# Altium footprint library PCB_Lib.PcbLib: 296 footprints (part 15 of 19)
Each footprint in its own frame and in the unit in brackets; x right, y up, seen from the top. Pads: shape width x height; smd on the part's side, far side on the other; paste and mask are expansions set on the pad; w line width, h text height; cw(c..) or ccw(c..) is an arc to the next point about the centre after c.
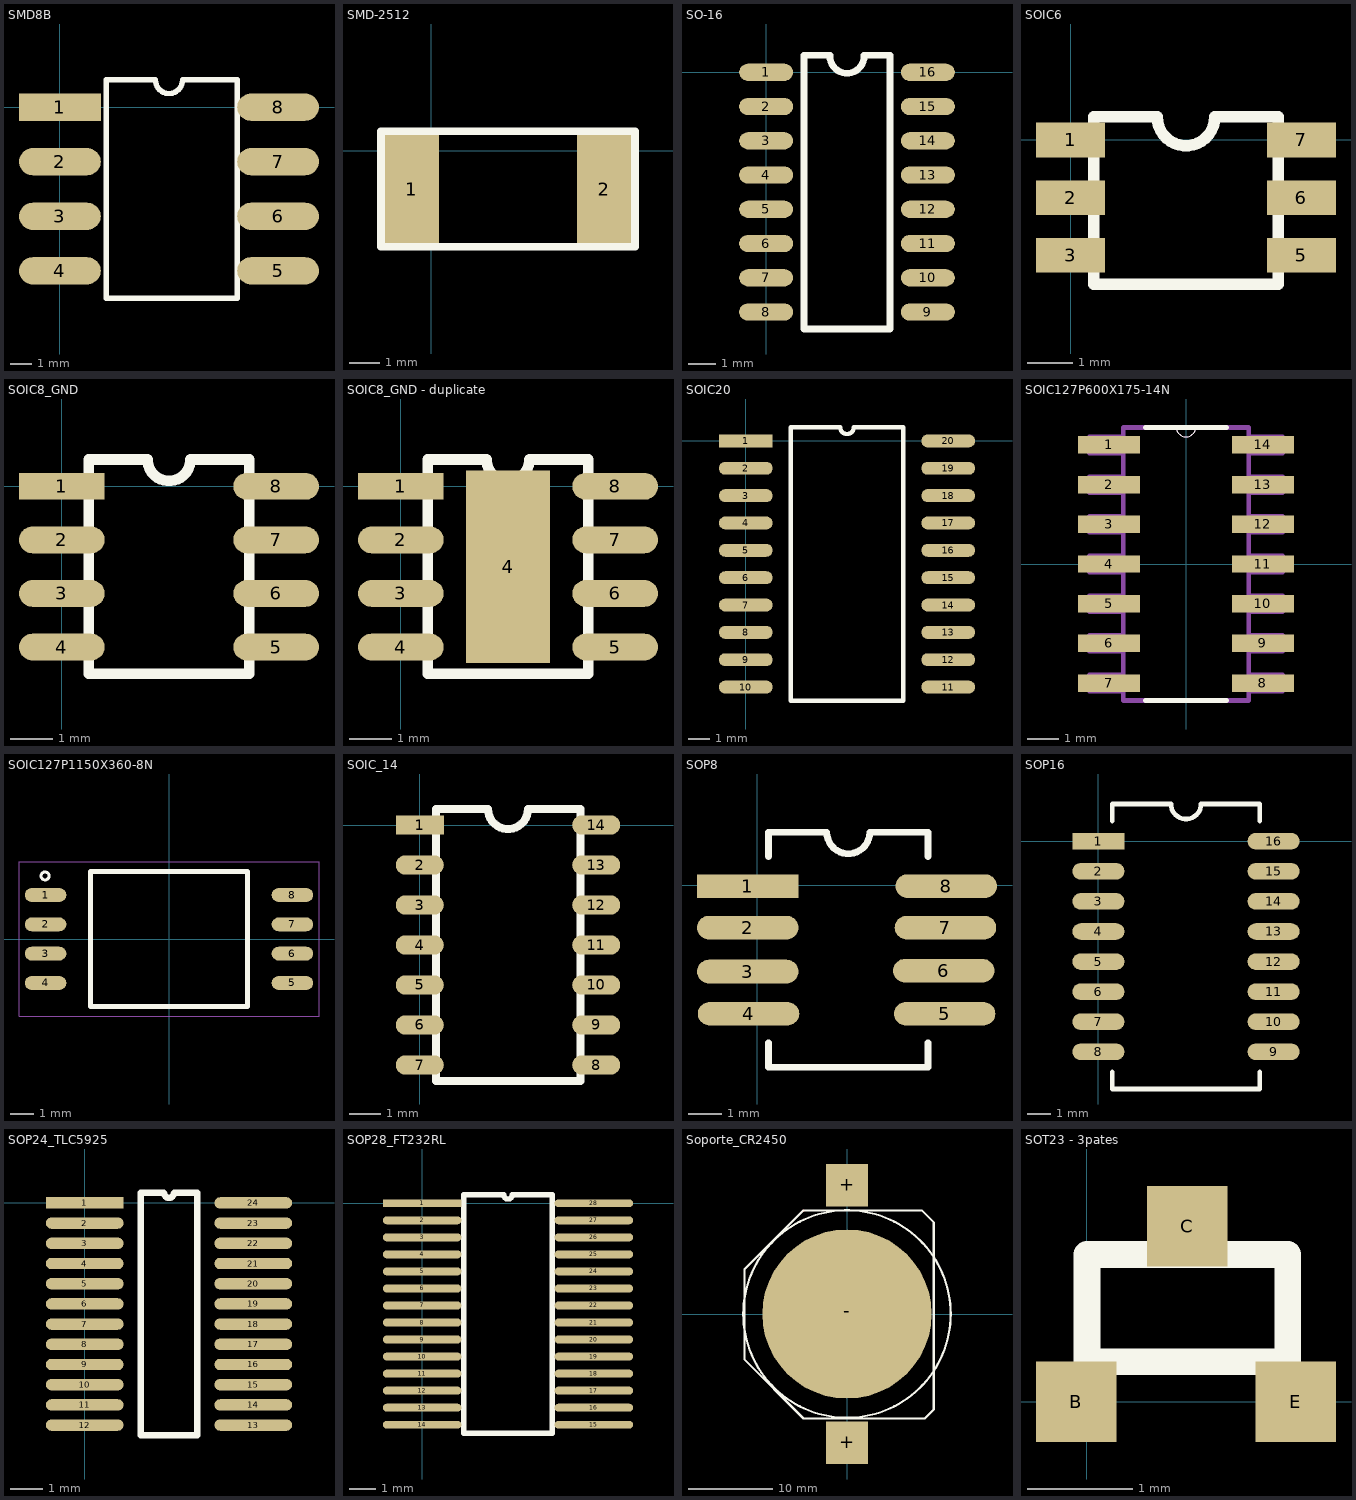
[diagram p14: the footprints below, top view; thin cyan lines are the x and y axes]

## SMD8B [mil]
pads (8):
  rect 150x50 smd: 1(0,0)
  oval 150x50 smd: 2(0,-100) 3(0,-200) 4(0,-300) 5(400,-300) 6(400,-200) 7(400,-100) 8(400,0)
Top Overlay:
  lines w10: 85,-350 85,50 175,50 ccw(c200,50) 225,50 325,50 325,-350 85,-350

## SMD-2512 [mil]
pads (2):
  rect 70x140 smd: 1(-25,-50) 2(225,-50)
Top Overlay:
  lines w10: -65,-125 -65,25 265,25 265,-125 -65,-125

## SO-16 [mm]
pads (16):
  oval 2x0.635 smd: 1(0,0) 2(0,-1.27) 3(0,-2.54) 4(0,-3.81) 5(0,-5.08) 6(0,-6.35) 7(0,-7.62) 8(0,-8.89) 9(6,-8.89) 10(6,-7.62) 11(6,-6.35) 12(6,-5.08) 13(6,-3.81) 14(6,-2.54) 15(6,-1.27) 16(6,0)
Top Overlay:
  lines w0.254: 2.365,0.6 ccw(c3,0.6) 3.635,0.6 ; 2.365,0.635 1.4,0.635 1.4,-9.525 4.6,-9.525 4.6,0.635 3.635,0.635

## SOIC6 [mil] "Circuito de 6 patas SMD"
height 100
pads (6):
  rect 60x30 smd: 1(0,0) 2(0,-50) 3(0,-100) 5(200,-100) 6(200,-50) 7(200,0)
Top Overlay:
  lines w10: 20,-125 180,-125 180,20 125,20 cw(c100,20) 75,20 20,20 20,-125

## SOIC8_GND [mil] "Con plano de masa inferior"
pads (8):
  rect 80x25 smd: 1(0,0)
  oval 80x25 smd: 2(0,-50) 3(0,-100) 4(0,-150) 5(200,-150) 6(200,-100) 7(200,-50) 8(200,0)
Top Overlay:
  lines w10: 25,-175 175,-175 175,25 120,25 cw(c100,25) 80,25 25,25 25,-175

## SOIC8_GND - duplicate [mil]
pads (9):
  rect 80x25 smd: 1(0,0)
  oval 80x25 smd: 2(0,-50) 3(0,-100) 4(0,-150) 5(200,-150) 6(200,-100) 7(200,-50) 8(200,0)
  rect 78.74x180 smd: 4(100,-75)
Top Overlay:
  lines w10: 25,-175 175,-175 175,25 120,25 cw(c100,25) 80,25 25,25 25,-175

## SOIC20 [mm]
pads (20):
  rect 2.5x0.6 smd: 1(0,0)
  oval 2.5x0.6 smd: 2(0,-1.27) 3(0,-2.54) 4(0,-3.81) 5(0,-5.08) 6(0,-6.35) 7(0,-7.62) 8(0,-8.89) 9(0,-10.16) 10(0,-11.43) 11(9.4,-11.43) 12(9.4,-10.16) 13(9.4,-8.89) 14(9.4,-7.62) 15(9.4,-6.35) 16(9.4,-5.08) 17(9.4,-3.81) 18(9.4,-2.54) 19(9.4,-1.27) 20(9.4,0)
Top Overlay:
  lines w0.2: 2.085,-12.065 2.085,0.635 4.382,0.635 ccw(c4.7,0.635) 5.017,0.635 7.315,0.635 7.315,-12.065 2.085,-12.065
3D body "SW3dPS-SOIC20-300.STEP": height 2.65, standoff 0, extent -0.5,-12.15 9.8,0.65

## SOIC127P600X175-14N [mil]
pads (14):
  rect 78x22 smd: 1(-97,150) 2(-97,100) 3(-97,50) 4(-97,0) 5(-97,-50) 6(-97,-100) 7(-97,-150) 8(97,-150) 9(97,-100) 10(97,-50) 11(97,0) 12(97,50) 13(97,100) 14(97,150)
Top Overlay:
  lines w0: -12,172 ccw(c0,172) 12,172
  lines w6: -51,-172 51,-172 ; -51,172 -12,172 12,172 51,172
Mechanical 4:
  lines w0: -12,172 ccw(c0,172) 12,172 cw(c0,172) -12,172
  lines w6: -122,-160 -79,-160 ; -122,-160 -122,-140 ; -122,-160 -79,-160 ; -122,-160 -122,-140 ; -122,-140 -79,-140 ; -122,-140 -79,-140 ; -122,-110 -79,-110 ; -122,-110 -122,-90 ; -122,-110 -79,-110 ; -122,-110 -122,-90 ; -122,-90 -79,-90 ; -122,-90 -79,-90 ; -122,-60 -79,-60 ; -122,-60 -122,-40 ; -122,-60 -79,-60 ; -122,-60 -122,-40 ; -122,-40 -79,-40 ; -122,-40 -79,-40 ; -122,-10 -79,-10 ; -122,-10 -122,10 ; -122,-10 -79,-10 ; -122,-10 -122,10 ; -122,10 -79,10 ; -122,10 -79,10 ; -122,40 -79,40 ; -122,40 -122,60 ; -122,40 -79,40 ; -122,40 -122,60 ; -122,60 -79,60 ; -122,60 -79,60 ; -122,90 -79,90 ; -122,90 -122,110 ; -122,90 -79,90 ; -122,90 -122,110 ; -122,110 -79,110 ; -122,110 -79,110 ; -122,140 -79,140 ; -122,140 -122,160 ; -122,140 -79,140 ; -122,140 -122,160 ; -122,160 -79,160 ; -122,160 -79,160 ; -79,-172 -79,172 ; -79,-172 79,-172 ; -79,-172 -79,172 ; -79,-172 79,-172 ; -79,-160 -79,-140 ; -79,-160 -79,-140 ; -79,-110 -79,-90 ; -79,-110 -79,-90 ; -79,-60 -79,-40 ; -79,-60 -79,-40 ; -79,-10 -79,10 ; -79,-10 -79,10 ; -79,40 -79,60 ; -79,40 -79,60 ; -79,90 -79,110 ; -79,90 -79,110 ; -79,140 -79,160 ; -79,140 -79,160 ; -79,172 -12,172 ; -79,172 -12,172 ; -12,172 12,172 ; -12,172 12,172 ; 12,172 79,172 ; 12,172 79,172 ; 79,-172 79,172 ; 79,-172 79,172 ; 79,-160 122,-160 ; 79,-160 79,-140 ; 79,-160 122,-160 ; 79,-160 79,-140 ; 79,-140 122,-140 ; 79,-140 122,-140 ; 79,-110 122,-110 ; 79,-110 79,-90 ; 79,-110 122,-110 ; 79,-110 79,-90 ; 79,-90 122,-90 ; 79,-90 122,-90 ; 79,-60 122,-60 ; 79,-60 79,-40 ; 79,-60 122,-60 ; 79,-60 79,-40 ; 79,-40 122,-40 ; 79,-40 122,-40 ; 79,-10 122,-10 ; 79,-10 79,10 ; 79,-10 122,-10 ; 79,-10 79,10 ; 79,10 122,10 ; 79,10 122,10 ; 79,40 122,40 ; 79,40 79,60 ; 79,40 122,40 ; 79,40 79,60 ; 79,60 122,60 ; 79,60 122,60 ; 79,90 122,90 ; 79,90 79,110 ; 79,90 122,90 ; 79,90 79,110 ; 79,110 122,110 ; 79,110 122,110 ; 79,140 122,140 ; 79,140 79,160 ; 79,140 122,140 ; 79,140 79,160 ; 79,160 122,160 ; 79,160 122,160 ; 122,-160 122,-140 ; 122,-160 122,-140 ; 122,-110 122,-90 ; 122,-110 122,-90 ; 122,-60 122,-40 ; 122,-60 122,-40 ; 122,-10 122,10 ; 122,-10 122,10 ; 122,40 122,60 ; 122,40 122,60 ; 122,90 122,110 ; 122,90 122,110 ; 122,140 122,160 ; 122,140 122,160

## SOIC127P1150X360-8N [mm]
pads (8):
  oval 1.8x0.6 smd: 1(-5.35,1.905) 2(-5.35,0.635) 3(-5.35,-0.635) 4(-5.35,-1.905) 5(5.35,-1.905) 6(5.35,-0.635) 7(5.35,0.635) 8(5.35,1.905)
Top Overlay:
  circle w0.127: c-5.37,2.733 r0.173
  lines w0.2: -3.404,-2.925 3.404,-2.925 3.404,2.925 -3.404,2.925 -3.404,-2.925
Mechanical 16:
  lines w0.05: -6.5,-3.35 6.5,-3.35 6.5,3.35 -6.5,3.35 -6.5,-3.35

## SOIC_14 [mil]
pads (14):
  rect 60x24 smd: 1(0,0)
  oval 60x24 smd: 2(0,-50) 3(0,-100) 4(0,-150) 5(0,-200) 6(0,-250) 7(0,-300) 8(220.47,-300) 9(220.47,-250) 10(220.47,-200) 11(220.47,-150) 12(220.47,-100) 13(220.47,-50) 14(220.47,0)
Top Overlay:
  lines w10: 20,-320 20,20 85.24,20 ccw(c110.24,20) 135.24,20 200.79,20 200.79,-320 95,-320 20,-320

## SOP8 [mm]
pads (8):
  rect 3x0.7 smd: 1(-0.275,-0.025)
  oval 3x0.7 smd: 2(-0.275,-1.25) 3(-0.275,-2.55) 4(-0.25,-3.8) 5(5.55,-3.8) 6(5.525,-2.525) 7(5.575,-1.25) 8(5.6,-0.025)
Top Overlay:
  lines w0.2: 0.34,-4.66 0.34,-5.38 5.06,-5.38 5.06,-4.66 ; 0.34,0.85 0.34,1.57 2.065,1.57 ccw(c2.7,1.57) 3.335,1.57 5.06,1.57 5.06,0.85

## SOP16 [mm]
pads (16):
  rect 2.2x0.7 smd: 1(0,0)
  oval 2.2x0.7 smd: 2(0,-1.27) 3(0,-2.54) 4(0,-3.81) 5(0,-5.08) 6(0,-6.35) 7(0,-7.62) 8(0,-8.89) 9(7.4,-8.89) 10(7.4,-7.62) 11(7.4,-6.35) 12(7.4,-5.08) 13(7.4,-3.81) 14(7.4,-2.54) 15(7.4,-1.27) 16(7.4,0)
Top Overlay:
  lines w0.2: 0.59,-9.74 0.59,-10.46 6.81,-10.46 6.81,-9.74 ; 0.59,0.85 0.59,1.57 3.065,1.57 ccw(c3.7,1.57) 4.335,1.57 6.81,1.57 6.81,0.85

## SOP24_TLC5925 [mm]
pads (24):
  rect 2.4x0.35 smd: 1(0,0)
  oval 2.4x0.35 smd: 2(0,-0.623) 3(0,-1.246) 4(0,-1.869) 5(0,-2.492) 6(0,-3.115) 7(0,-3.738) 8(0,-4.361) 9(0,-4.984) 10(0,-5.607) 11(0,-6.23) 12(0,-6.853) 13(5.2,-6.853) 14(5.2,-6.23) 15(5.2,-5.607) 16(5.2,-4.984) 17(5.2,-4.361) 18(5.2,-3.738) 19(5.2,-3.115) 20(5.2,-2.492) 21(5.2,-1.869) 22(5.2,-1.246) 23(5.2,-0.623) 24(5.2,0)
Top Overlay:
  lines w0.2: 1.735,-7.165 3.465,-7.165 3.465,0.312 2.756,0.312 cw(c2.6,0.312) 2.444,0.312 1.735,0.312 1.735,-7.165

## SOP28_FT232RL [mm]
pads (28):
  rect 3x0.3 smd: 1(0,0)
  oval 3x0.3 smd: 2(0,-0.65) 3(0,-1.3) 4(0,-1.95) 5(0,-2.6) 6(0,-3.25) 7(0,-3.9) 8(0,-4.55) 9(0,-5.2) 10(0,-5.85) 11(0,-6.5) 12(0,-7.15) 13(0,-7.8) 14(0,-8.45) 15(6.55,-8.45) 16(6.55,-7.8) 17(6.55,-7.15) 18(6.55,-6.5) 19(6.55,-5.85) 20(6.55,-5.2) 21(6.55,-4.55) 22(6.55,-3.9) 23(6.55,-3.25) 24(6.55,-2.6) 25(6.55,-1.95) 26(6.55,-1.3) 27(6.55,-0.65) 28(6.55,0)
Top Overlay:
  lines w0.2: 1.585,-8.775 4.965,-8.775 4.965,0.325 3.437,0.325 cw(c3.275,0.325) 3.113,0.325 1.585,0.325 1.585,-8.775

## Soporte_CR2450 [mm]
pads (3):
  rect 5x5 smd: +(0,-15.215) +(0,15.215)
  round 20 smd: -(0,0)
Top Layer:
  lines w0.254: -5.131,12.192 -5.131,12.243
Top Overlay:
  circle w0.254: c0,0 r12.25
  lines w0.254: -12.116,5.207 -12.116,-5.359 -5.131,-12.344 5.385,-12.344 9.169,-12.344 10.236,-11.278 10.236,-0.051 10.236,10.82 8.814,12.243 0.076,12.243 -5.131,12.243 -12.116,5.258

## SOT23 - 3pates [mil] "Transistor SMD"
pads (3):
  rect 30x30 smd: B(-4,0) C(37.4,65.62) E(78,0)
Top Overlay:
  lines w10: 0,15 35,15 75,15 75,55 0,55 0,15